# Altium schematic symbol library CONN_10P_2R.Schlib: 1 symbol
Pins are listed as number, name and electrical type; pins without a type are passive.

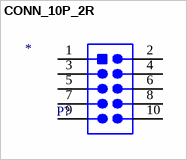
[diagram p0: symbol CONN_10P_2R]

## CONN_10P_2R
designator P?
Value: *
pins: 1, 2, 3, 4, 5, 6, 7, 8, 9, 10